# Altium footprint library LCDs.PcbLib: 1 footprints
Each footprint in its own frame and in the unit in brackets; x right, y up, seen from the top. Pads: shape width x height; smd on the part's side, far side on the other; paste and mask are expansions set on the pad; w line width, h text height; cw(c..) or ccw(c..) is an arc to the next point about the centre after c.
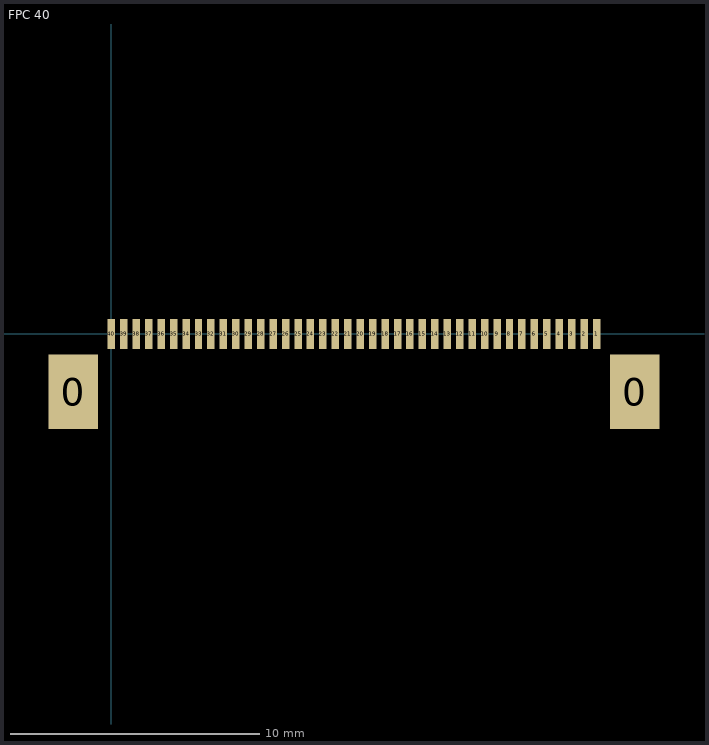
[diagram p0: the footprint, top view; thin cyan lines are the x and y axes]

## FPC 40 [mm] "0.5 mm"
pads (42):
  rect 2x3 smd: 0(-1.54,-2.325) 0(21.04,-2.325)
  rect 0.3x1.2 smd: 1(19.5,0) 2(19,0) 3(18.5,0) 4(18,0) 5(17.5,0) 6(17,0) 7(16.5,0) 8(16,0) 9(15.5,0) 10(15,0) 11(14.5,0) 12(14,0) 13(13.5,0) 14(13,0) 15(12.5,0) 16(12,0) 17(11.5,0) 18(11,0) 19(10.5,0) 20(10,0) 21(9.5,0) 22(9,0) 23(8.5,0) 24(8,0) 25(7.5,0) 26(7,0) 27(6.5,0) 28(6,0) 29(5.5,0) 30(5,0) 31(4.5,0) 32(4,0) 33(3.5,0) 34(3,0) 35(2.5,0) 36(2,0) 37(1.5,0) 38(1,0) 39(0.5,0) 40(0,0)
3D body "4-1734839-0.stp": height 2.1, standoff 0.05, extent -2.93,-4.705 22.5,0.405